# EAGLE library part SAM-M8Q (library IntegratedLib)
M8 GNSS antenna module
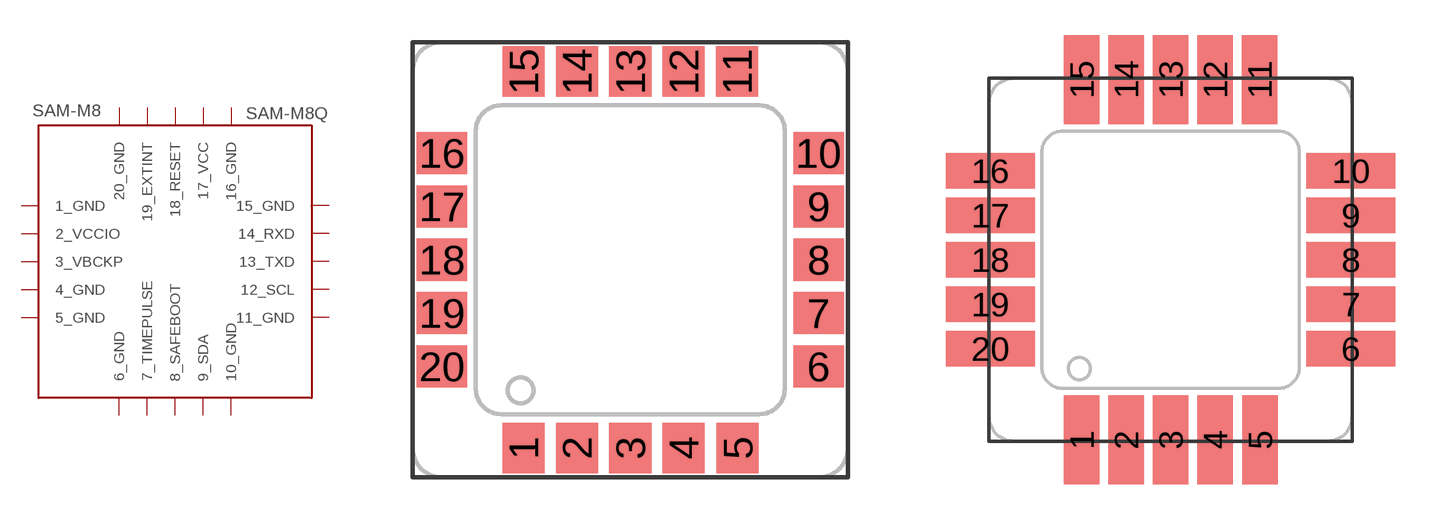
[diagram p38: symbol with the pads of SAM-M8Q; footprints SAM-M8Q, SAM-M8Q(LONG-PADS)]

Designator prefix SAM-M8

## SAM-M8Q (FABRICANTE: U-BLOX; PARTNUMBER: SAM-M8Q; TIPO: MODULO)  [SAM-M8Q]
1  1_GND
2  2_VCCIO
3  3_VBCKP
4  4_GND
5  5_GND
6  6_GND
7  7_TIMEPULSE
8  8_SAFEBOOT
9  9_SDA
10  10_GND
11  11_GND
12  12_SCL
13  13_TXD
14  14_RXD
15  15_GND
16  16_GND
17  17_VCC
18  18_RESET
19  19_EXTINT
20  20_GND

## SAM-M8QLONG-PADS  [SAM-M8Q(LONG-PADS)]
Pads as for SAM-M8Q

## Footprint SAM-M8Q (pad centres in mm)
smd 1.5 x 1.8: 1 -3.8,-6.7; 2 -1.9,-6.7; 3 0,-6.7; 4 1.9,-6.7; 5 3.82,-6.7; 11 3.8,6.7; 12 1.9,6.7; 13 0,6.7; 14 -1.9,6.7; 15 -3.8,6.7
smd 1.8 x 1.5: 6 6.7,-3.8; 7 6.7,-1.9; 8 6.7,0; 9 6.7,1.9; 10 6.7,3.8; 16 -6.7,3.8; 17 -6.7,1.9; 18 -6.7,0; 19 -6.7,-1.9; 20 -6.7,-3.8

## Footprint SAM-M8Q(LONG-PADS) (pad centres in mm)
smd 1.5 x 3.8: 1 -3.8,-7.7; 2 -1.9,-7.7; 3 0,-7.7; 4 1.9,-7.7; 5 3.82,-7.7; 11 3.8,7.7; 12 1.9,7.7; 13 0,7.7; 14 -1.9,7.7; 15 -3.8,7.7
smd 3.8 x 1.5: 6 7.7,-3.8; 7 7.7,-1.9; 8 7.7,0; 9 7.7,1.9; 10 7.7,3.8; 16 -7.7,3.8; 17 -7.7,1.9; 18 -7.7,0; 19 -7.7,-1.9; 20 -7.7,-3.8